# Altium footprint library passiveComps.PcbLib: 19 footprints (part 1 of 2)
Each footprint in its own frame and in the unit in brackets; x right, y up, seen from the top. Pads: shape width x height; smd on the part's side, far side on the other; paste and mask are expansions set on the pad; w line width, h text height; cw(c..) or ccw(c..) is an arc to the next point about the centre after c.
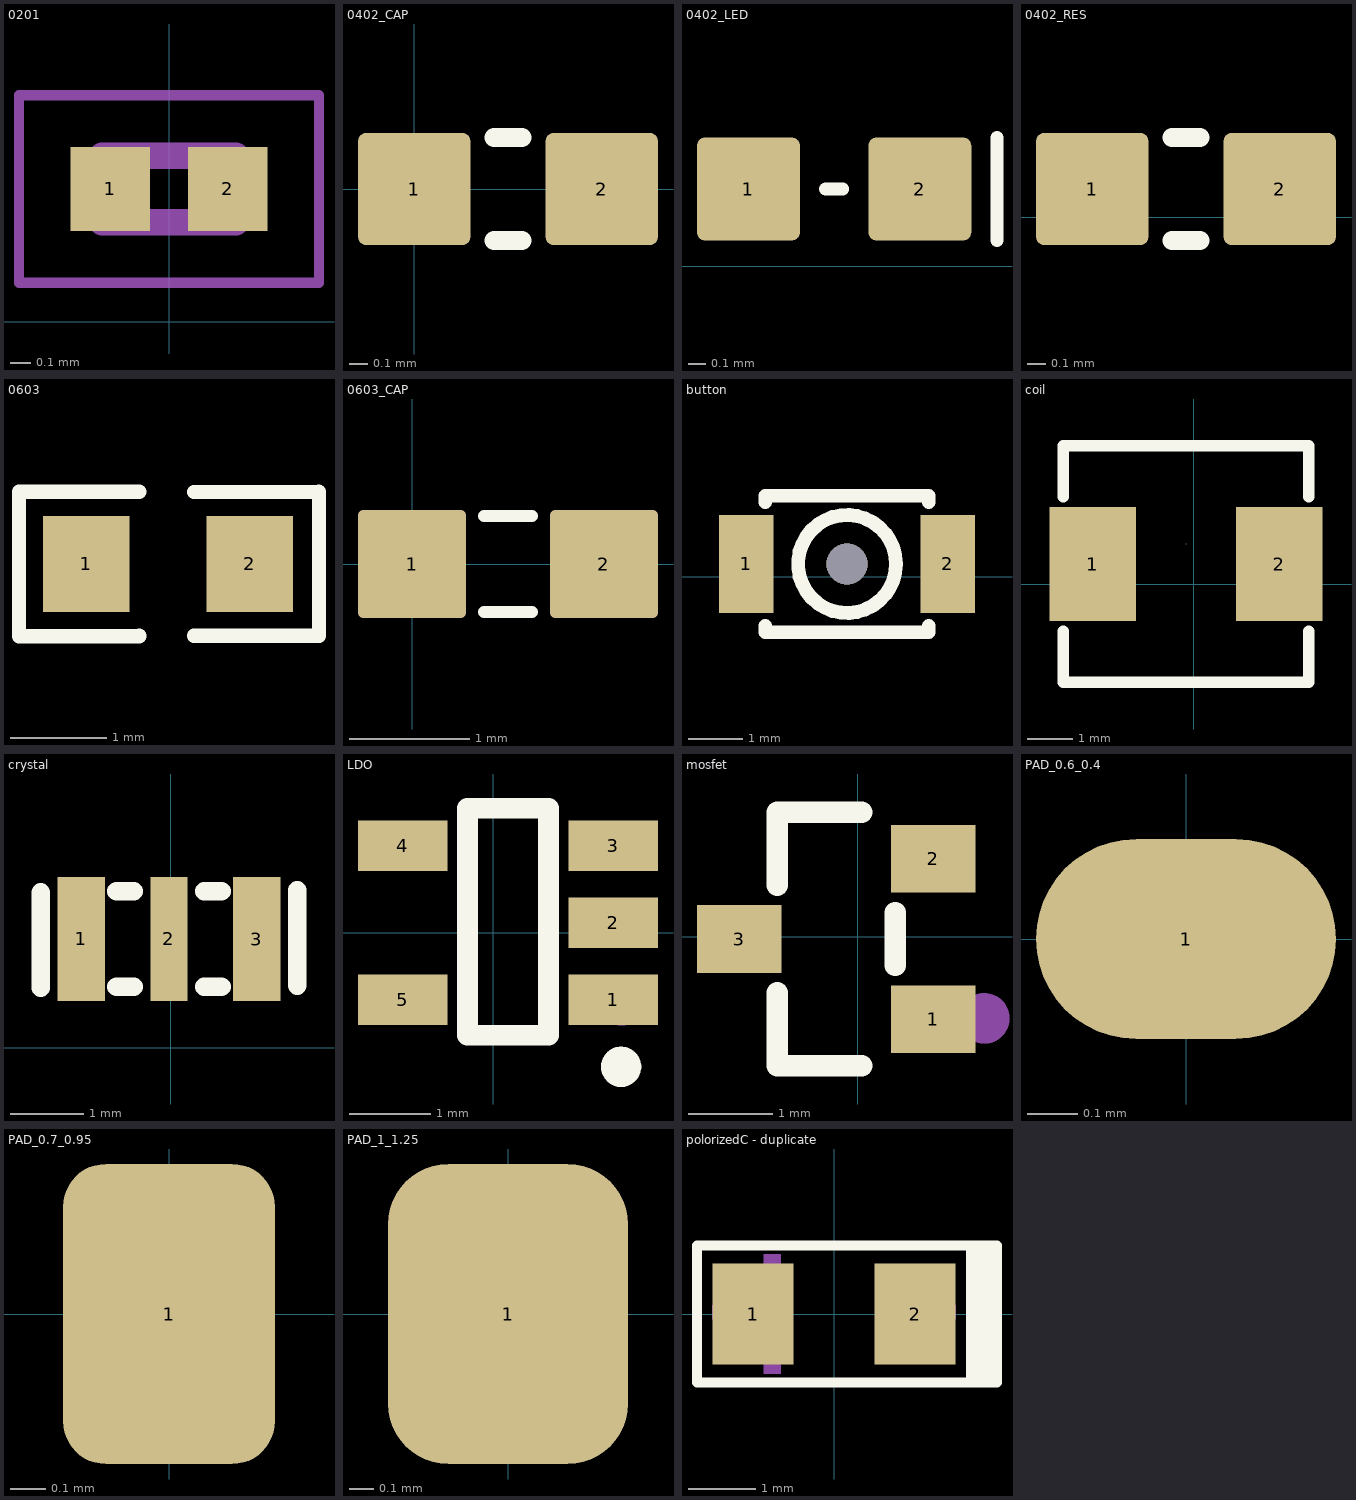
[diagram p0: the footprints below, top view; thin cyan lines are the x and y axes]

## 0201 [mm]
pads (2):
  rect 0.38x0.4 smd: 1(-0.281,0.635) 2(0.281,0.635)
Mechanical 13:
  lines w0.127: -0.32,0.475 0.32,0.475 0.32,0.795 -0.32,0.795 -0.32,0.475
Mechanical 15:
  lines w0.05: -0.718,0.187 0.718,0.187 0.718,1.083 -0.718,1.083 -0.718,0.187

## 0402_CAP [mm]
pads (2):
  rrect15% 0.6x0.6 smd: 1(0,0) 2(1,0)
Top Overlay:
  lines w0.1: 0.425,-0.275 0.575,-0.275 ; 0.425,0.275 0.575,0.275
3D body "0402_CAP.step": height 0.52, standoff 0.01, extent -0.008,-0.254 1.008,0.254

## 0402_LED [mm]
pads (2):
  rrect15% 0.6x0.6 smd: 1(0.4,0.45) 2(1.4,0.45)
Top Overlay:
  lines w0.075: 0.85,0.45 0.95,0.45 ; 1.85,0.15 1.85,0.75
3D body "0402_Red_LED.step": height 0.35, standoff 0, extent 0.4,0.2 1.4,0.7

## 0402_RES [mm]
pads (2):
  rrect15% 0.6x0.6 smd: 1(0.8,0.15) 2(1.8,0.15)
Top Overlay:
  lines w0.1: 1.225,-0.125 1.375,-0.125 ; 1.225,0.425 1.375,0.425
3D body "0402_RES.step": height 0.3, standoff 0, extent 0.802,-0.1 1.802,0.4

## 0603 [mm]
pads (2):
  rect 0.9x1 smd paste+0 mask+0.051: 1(-6.845,7.048) 2(-5.145,7.048)
Top Overlay:
  lines w0.15: -7.545,7.778 -7.545,6.298 -6.295,6.298 -6.293,6.3 ; -7.545,7.798 -6.295,7.798 ; -5.725,6.3 -4.425,6.3 -4.425,7.796 -4.427,7.798 ; -5.725,7.797 -4.426,7.797
Mechanical 15:
  region: -6.86,6.775 -6.86,7.375 -6.71,7.375 -6.71,6.775
  region: -5.395,7.148 -4.795,7.148 -4.795,6.998 -5.395,6.998
  region: -7.095,7.148 -6.495,7.148 -6.495,6.998 -7.095,6.998

## 0603_CAP [mm]
pads (2):
  rrect10% 0.9x0.9 smd: 1(0,0) 2(1.6,0)
Top Overlay:
  lines w0.1: 0.6,-0.4 1,-0.4 ; 0.6,0.4 1,0.4
3D body "0603_CAP.STEP": height 0.9, standoff 0, extent 0,-0.4 1.6,0.4

## 0805_CAP [mm]

## button [mm]
pads (3):
  rect 1x1.8 smd paste+0 mask+0.051: 1(-5.596,0.234) 2(-1.896,0.234)
  round 0.75 hole 0.75 unplated paste+0: ""(-3.746,0.234)
Top Overlay:
  circle w0.254: c-3.746,0.234 r0.898
  lines w0.254: -5.246,-0.897 -5.246,-1.016 -2.246,-1.016 -2.246,-0.897 ; -5.246,1.365 -5.246,1.484 -2.246,1.484 -2.246,1.365
Mechanical 15:
  circle w0.33: c-3.746,0.234 r0.165
3D body "tacticalSwitchSMD.stp": height 1.93, standoff 0, extent -6.248,-1.265 -1.244,1.733

## coil [mm]
pads (2):
  rect 1.9x2.5 smd paste+0 mask+0.051: 1(-2.225,0.441) 2(1.875,0.441)
Top Overlay:
  lines w0.254: -2.875,-1.04 -2.875,-2.159 2.525,-2.159 2.525,-1.04 ; -2.875,1.922 -2.875,3.041 2.525,3.041 2.525,1.922
Mechanical 15:
  lines w0.003: -0.175,0.887 -0.175,0.888
3D body "0518_Inductor.step": height 1.6, standoff 0, extent -2.95,-2.15 2.6,3.05

## crystal [mm]
pads (3):
  rect 0.65x1.7 smd paste+0 mask+0.051: 1(-1.225,1.485) 3(1.175,1.485)
  rect 0.5x1.7 smd paste+0 mask+0.051: 2(-0.025,1.485)
Top Overlay:
  lines w0.254: -1.778,0.82 -1.778,2.12 ; -0.743,0.835 -0.506,0.835 ; -0.743,2.135 -0.506,2.135 ; 0.456,0.835 0.692,0.835 ; 0.456,2.135 0.692,2.135 ; 1.727,0.85 1.727,2.15
Mechanical 15:
  lines w0.003: 0.463,1.981 0.464,1.981
3D body "3P_CeramicResonator.step": height 0.7, standoff 0, extent -1.625,0.825 1.575,2.125

## LDO [mil]
pads (5):
  rect 43.5x24.5 smd paste+0 mask+2: 1(58.25,-32.48) 2(58.25,4.89) 3(58.25,42.3) 4(-44.11,42.3) 5(-44.11,-32.48)
Top Overlay:
  lines w9.8: 66.97,-65.15 cw(c62.07,-65.1) 66.97,-65.05
  lines w10: -12.63,-49.7 26.77,-49.7 26.77,60.5 -12.63,60.5 -12.63,-49.7
Mechanical 15:
  circle w10: c62.07,-35.1 r5
3D body "SOT-23_5pins.STEP": height 45.28, standoff -0.98, extent -48.23,-52.17 62.99,62.01

## mosfet [mm]
pads (3):
  rect 1x0.8 smd paste+0 mask+0.051: 1(0.895,-0.974) 2(0.895,0.926) 3(-1.405,-0.024)
Top Overlay:
  lines w0.254: -0.955,-0.66 -0.955,-1.524 0.045,-1.524 ; -0.955,0.612 -0.955,1.476 0.045,1.476 ; 0.445,-0.338 0.445,0.29
Mechanical 15:
  circle w0.3: c1.498,-0.964 r0.15
3D body "SOT23-3.stp": height 1.2, standoff 0.02, extent -1.693,-1.525 1.143,1.475

## PAD_0.6_0.4 [mm]
pads (1):
  oval 0.6x0.4 smd: 1(0,0)

## PAD_0.7_0.95 [mm]
pads (1):
  rrect40% 0.6x0.85 smd: 1(0,0)

## PAD_1_1.25 [mm]
pads (1):
  rrect50% 1x1.25 smd: 1(0,0)

## polorizedC - duplicate [mm]
pads (2):
  rect 1.2x1.5 smd paste+0 mask+0.051: 1(-1.2,0) 2(1.2,0)
Top Overlay:
  region: 2.032,-1.016 2.032,1.016 2.413,1.016 2.413,-1.016
  lines w0.152: 2.032,-1.016 2.032,1.016 ; 2.032,-1.016 -2.032,-1.016 -2.032,1.016 2.032,1.016 ; 2.032,-1.016 2.413,-1.016 2.413,1.016 2.032,1.016
Mechanical 15:
  region: -0.79,0.381 -0.79,0.889 -1.044,0.889 -1.044,0.381
  region: -0.79,-0.889 -0.79,-0.381 -1.044,-0.381 -1.044,-0.889
  region: -1.806,0.127 -1.019,0.127 -1.019,-0.076 -1.806,-0.076
  region: -1.501,-0.394 -1.501,0.394 -1.298,0.394 -1.298,-0.394
  region: 1.016,0.127 1.803,0.127 1.803,-0.076 1.016,-0.076